# Altium footprint library con-phoenix-508.PCBLIB: 118 footprints (part 8 of 8)
Each footprint in its own frame and in the unit in brackets; x right, y up, seen from the top. Pads: shape width x height; smd on the part's side, far side on the other; paste and mask are expansions set on the pad; w line width, h text height; cw(c..) or ccw(c..) is an arc to the next point about the centre after c.
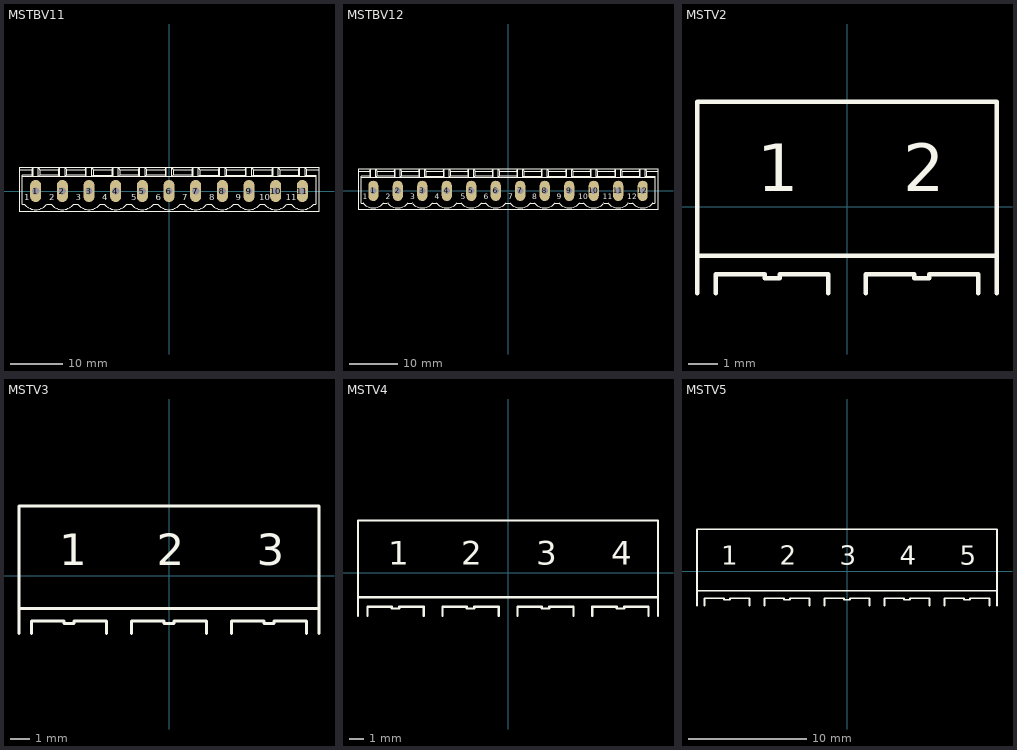
[diagram p7: the footprints below, top view; thin cyan lines are the x and y axes]

## MSTBV11 [mil]
pads (11):
  oval 82.5x165 hole 55: 1(-1000,0) 2(-800,0) 3(-600,0) 4(-400,0) 5(-200,0) 6(0,0) 7(200,0) 8(400,0) 9(600,0) 10(800,0) 11(1000,0)
Top Overlay:
  drawing of 201 lines, arcs and shapes, not listed
  text "1" at -1085,-85 h77.5
  text "2" at -900,-85 h77.5
  text "3" at -700,-85 h77.5
  text "4" at -500,-85 h77.5
  text "5" at -285,-85 h77.5
  text "6" at -100,-85 h77.5
  text "7" at 100,-85 h77.5
  text "8" at 300,-85 h77.5
  text "9" at 500,-85 h77.5
  text "10" at 675,-85 h77.5
  text "11" at 875,-85 h77.5
Mechanical 16:
  lines w6: -1025,-25 -1025,25 ; -1025,-25 -975,-25 ; -1025,-25 -975,25 ; -1025,25 -975,25 ; -1025,25 -975,-25 ; -975,-25 -975,25 ; -825,-25 -775,-25 ; -825,-25 -825,25 ; -825,-25 -775,25 ; -825,25 -775,25 ; -825,25 -775,-25 ; -775,-25 -775,25 ; -625,-25 -625,25 ; -625,-25 -575,-25 ; -625,-25 -575,25 ; -625,25 -575,25 ; -625,25 -575,-25 ; -575,-25 -575,25 ; -425,-25 -425,25 ; -425,-25 -375,25 ; -425,-25 -375,-25 ; -425,25 -375,25 ; -425,25 -375,-25 ; -375,-25 -375,25 ; -225,-25 -225,25 ; -225,-25 -175,-25 ; -225,-25 -175,25 ; -225,25 -175,25 ; -225,25 -175,-25 ; -175,-25 -175,25 ; -25,-25 25,-25 ; -25,-25 -25,25 ; -25,-25 25,25 ; -25,25 25,25 ; -25,25 25,-25 ; 25,-25 25,25 ; 175,-25 175,25 ; 175,-25 225,-25 ; 175,-25 225,25 ; 175,25 225,25 ; 175,25 225,-25 ; 225,-25 225,25 ; 375,-25 375,25 ; 375,-25 425,25 ; 375,-25 425,-25 ; 375,25 425,25 ; 375,25 425,-25 ; 425,-25 425,25 ; 575,-25 575,25 ; 575,-25 625,-25 ; 575,-25 625,25 ; 575,25 625,25 ; 575,25 625,-25 ; 625,-25 625,25 ; 775,-25 775,25 ; 775,-25 825,-25 ; 775,-25 825,25 ; 775,25 825,25 ; 775,25 825,-25 ; 825,-25 825,25 ; 975,-25 975,25 ; 975,-25 1025,-25 ; 975,-25 1025,25 ; 975,25 1025,25 ; 975,25 1025,-25 ; 1025,-25 1025,25

## MSTBV12 [mil]
pads (12):
  oval 82.5x165 hole 55: 1(-1100,0) 2(-900,0) 3(-700,0) 4(-500,0) 5(-300,0) 6(-100,0) 7(100,0) 8(300,0) 9(500,0) 10(700,0) 11(900,0) 12(1100,0)
Top Overlay:
  drawing of 218 lines, arcs and shapes, not listed
  text "1" at -1185,-85 h77.5
  text "2" at -1000,-85 h77.5
  text "3" at -800,-85 h77.5
  text "4" at -600,-85 h77.5
  text "5" at -385,-85 h77.5
  text "6" at -200,-85 h77.5
  text "7" at 0,-85 h77.5
  text "8" at 200,-85 h77.5
  text "9" at 400,-85 h77.5
  text "10" at 575,-85 h77.5
  text "11" at 775,-85 h77.5
  text "12" at 975,-85 h77.5
Mechanical 16:
  lines w6: -1125,-25 -1125,25 ; -1125,-25 -1075,-25 ; -1125,-25 -1075,25 ; -1125,25 -1075,25 ; -1125,25 -1075,-25 ; -1075,-25 -1075,25 ; -925,-25 -875,-25 ; -925,-25 -925,25 ; -925,-25 -875,25 ; -925,25 -875,25 ; -925,25 -875,-25 ; -875,-25 -875,25 ; -725,-25 -725,25 ; -725,-25 -675,-25 ; -725,-25 -675,25 ; -725,25 -675,25 ; -725,25 -675,-25 ; -675,-25 -675,25 ; -525,-25 -525,25 ; -525,-25 -475,25 ; -525,-25 -475,-25 ; -525,25 -475,25 ; -525,25 -475,-25 ; -475,-25 -475,25 ; -325,-25 -325,25 ; -325,-25 -275,-25 ; -325,-25 -275,25 ; -325,25 -275,25 ; -325,25 -275,-25 ; -275,-25 -275,25 ; -125,-25 -75,-25 ; -125,-25 -125,25 ; -125,-25 -75,25 ; -125,25 -75,25 ; -125,25 -75,-25 ; -75,-25 -75,25 ; 75,-25 75,25 ; 75,-25 125,-25 ; 75,-25 125,25 ; 75,25 125,25 ; 75,25 125,-25 ; 125,-25 125,25 ; 275,-25 275,25 ; 275,-25 325,25 ; 275,-25 325,-25 ; 275,25 325,25 ; 275,25 325,-25 ; 325,-25 325,25 ; 475,-25 475,25 ; 475,-25 525,-25 ; 475,-25 525,25 ; 475,25 525,25 ; 475,25 525,-25 ; 525,-25 525,25 ; 675,-25 675,25 ; 675,-25 725,-25 ; 675,-25 725,25 ; 675,25 725,25 ; 675,25 725,-25 ; 725,-25 725,25 ; 875,-25 875,25 ; 875,-25 925,-25 ; 875,-25 925,25 ; 875,25 925,25 ; 875,25 925,-25 ; 925,-25 925,25 ; 1075,-25 1075,25 ; 1075,-25 1125,-25 ; 1075,-25 1125,25 ; 1075,25 1125,25 ; 1075,25 1125,-25 ; 1125,-25 1125,25

## MSTV2 [mil]
Top Overlay:
  lines w6: -200,-115 -200,-65 ; -175,-115 -175,-90 -110,-90 -110,-95 -90,-95 -90,-90 -25,-90 -25,-115 ; 25,-115 25,-90 90,-90 90,-95 110,-95 110,-90 175,-90 175,-115 ; 200,-115 200,-65 ; -200,-65 -200,140 200,140 200,-65 ; -200,-65 200,-65
  text "1" at -120,0 h108.5
  text "2" at 75,0 h108.5

## MSTV3 [mil]
Top Overlay:
  lines w6: -300,-115 -300,-65 ; -275,-115 -275,-90 -210,-90 -210,-95 -190,-95 -190,-90 -125,-90 -125,-115 ; -75,-115 -75,-90 -10,-90 -10,-95 10,-95 10,-90 75,-90 75,-115 ; 125,-115 125,-90 190,-90 190,-95 210,-95 210,-90 275,-90 275,-115 ; 300,-115 300,-65 ; -300,-65 -300,140 300,140 300,-65 ; -300,-65 300,-65
  text "1" at -220,0 h108.5
  text "2" at -25,0 h108.5
  text "3" at 175,0 h108.5

## MSTV4 [mil]
Top Overlay:
  lines w6: -400,-115 -400,-65 ; -375,-115 -375,-90 -310,-90 -310,-95 -290,-95 -290,-90 -225,-90 -225,-115 ; -175,-115 -175,-90 -110,-90 -110,-95 -90,-95 -90,-90 -25,-90 -25,-115 ; 25,-115 25,-90 90,-90 90,-95 110,-95 110,-90 175,-90 175,-115 ; 225,-115 225,-90 290,-90 290,-95 310,-95 310,-90 375,-90 375,-115 ; 400,-115 400,-65 ; -400,-65 -400,140 400,140 400,-65 ; -400,-65 400,-65
  text "1" at -320,0 h108.5
  text "2" at -125,0 h108.5
  text "3" at 75,0 h108.5
  text "4" at 275,0 h108.5

## MSTV5 [mil]
Top Overlay:
  lines w6: -500,-115 -500,-65 ; -475,-115 -475,-90 -410,-90 -410,-95 -390,-95 -390,-90 -325,-90 -325,-115 ; -275,-115 -275,-90 -210,-90 -210,-95 -190,-95 -190,-90 -125,-90 -125,-115 ; -75,-115 -75,-90 -10,-90 -10,-95 10,-95 10,-90 75,-90 75,-115 ; 125,-115 125,-90 190,-90 190,-95 210,-95 210,-90 275,-90 275,-115 ; 325,-115 325,-90 390,-90 390,-95 410,-95 410,-90 475,-90 475,-115 ; 500,-115 500,-65 ; -500,-65 -500,140 500,140 500,-65 ; -500,-65 500,-65
  text "1" at -420,0 h108.5
  text "2" at -225,0 h108.5
  text "3" at -25,0 h108.5
  text "4" at 175,0 h108.5
  text "5" at 375,0 h108.5